# Altium schematic symbol library HE721R0510.SchLib: 1 symbol
Pins are listed as number, name and electrical type; pins without a type are passive.

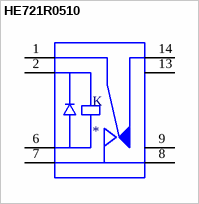
[diagram p0: symbol HE721R0510]

## HE721R0510
designator K
RELAY REED SPDT 250MA 5V; MP: HE721R0510; MF: Littelfuse Inc.; Digi-Key_Part_Number: F11467-ND; Value: *; SnapEDA_Link: https://www.snapeda.com/parts/HE721R0510/Littelfuse%20Inc./view-part/1739461/?ref=snap; Package: None; Digi-Key_Purchase_URL: https://www.digikey.com/product-detail/en/littelfuse-inc/HE721R0510/F11467-ND/4780712?utm_source=snapeda&utm_medium=aggregator&utm_campaign=symbol
footprint RELAY_HE721R0510
pins: 1, 2, 6, 7, 8, 9, 13, 14